# Altium schematic symbol library BQ2571x_reference.SCHLIB: 51 symbols (part 2 of 2)
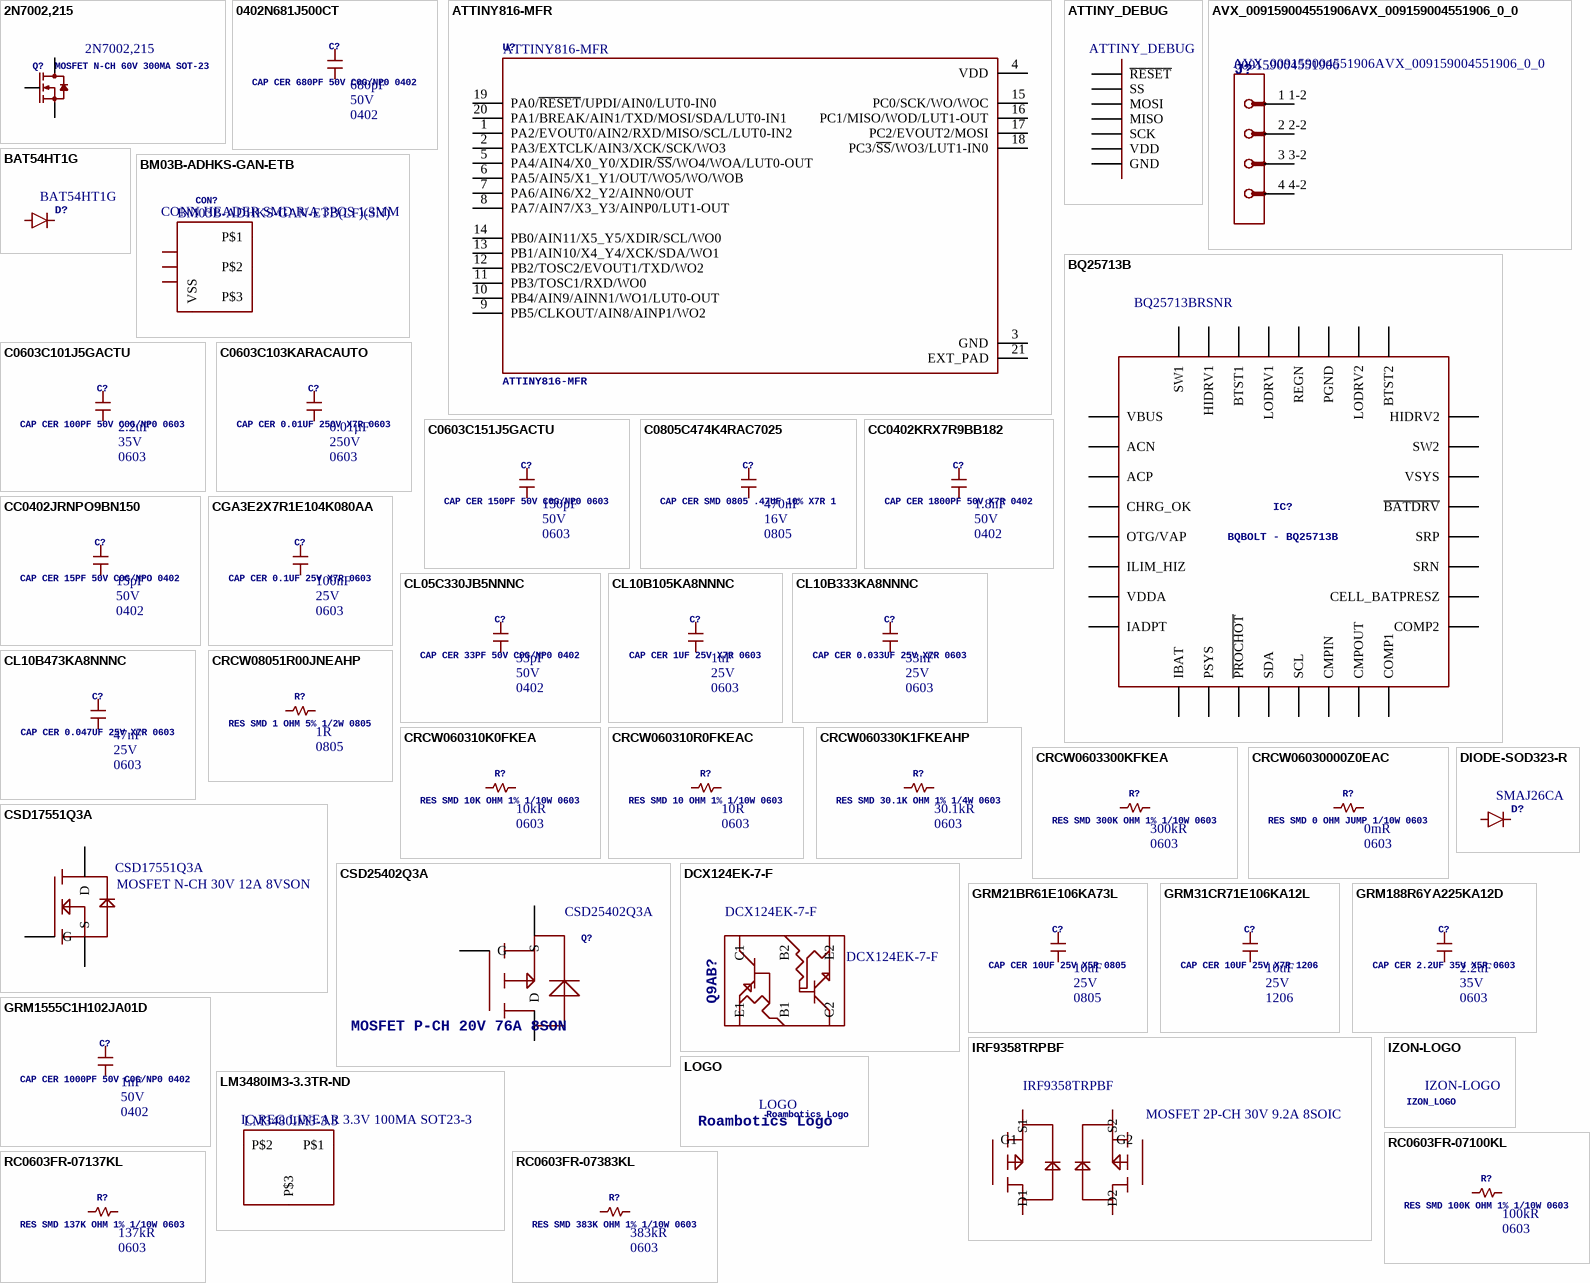
[diagram p2: symbols 2N7002,215 to RC0603FR-07383KL]

## DIODE-SOD323-R
designator D?, comment Manufacturer Part Number: SMAJ26CA  (hidden comment: TVS DIODE 26V 42.1V DO214AC)
42.1V Clamp 9.5A Ipp Tvs Diode Surface Mount DO-214AC (SMA); Manufacturer: Littelfuse; Direction: Bidirectional; Min Breakdown Voltage: 28.9V; Peak Pulse Power: 400W; Number of Channels: 1; Test Current: 1mA; Power Line Protection: No; Max Breakdown Voltage: 31.9V; Max Power Dissipation: 3.3W; Leakage Current: 1uA; ComponentLink1URL: http://www.mouser.com/ds/2/115/ds30093-892620.pdf?src-supplier=Mouser; ComponentLink1Description: http://www.mouser.com/ds/2/115/ds30093-892620.pdf?src-supplier=Mouser; ComponentLink2URL: https://media.digikey.com/pdf/Data%20Sheets/Diodes%20PDFs/BZT52C2V0S-BZT52C39S.pdf?src-supplier=Digi-Key; ComponentLink2Description: https://media.digikey.com/pdf/Data%20Sheets/Diodes%20PDFs/BZT52C2V0S-BZT52C39S.pdf?src-supplier=Digi-Key; Supplier 1: Digi-Key; Stock 1: 19712; Pricing 1: 1 = 0.57000, 10 = 0.44600, 25 = 0.37600, 100 = 0.30590, 250 = 0.25348, 500 = 0.20980, 1000 = 0.15734, 2500 = 0.14423 (USD); RoHS: Yes; Mount: Surface Mount; Number of Pins: 2; Min Operating Temperature: -55°C; Max Operating Temperature: 150°C; Package Quantity: 5000; Packaging: Tape and Reel; Operating Supply Voltage: 26V; Max Surge Current: 9.5A; Reverse Standoff Voltage: 26V; Clamping Voltage: 42.1V; Breakdown Voltage: 28.9V; Polarity: Bidirectional; Peak Pulse Current: 9.5A; Voltage Rating (DC): 26V; Reverse Breakdown Voltage: 28.9V; Number of Bidirectional Channels: 1; Termination: SMD/SMT; Power Dissipation: 400W; Number of Elements: 1; Composition: Zener; Length: 5.28mm; Height: 2.29mm; Width: 2.79mm; Lead Free: Lead Free; REACH SVHC: No SVHC; ComponentLink3URL: https://datasheet.ciiva.com/331/littelfuse-tvs-diode-smaj-datasheet-pdf-331088.pdf?src-supplier=Digi-Key; ComponentLink3Description: https://datasheet.ciiva.com/331/littelfuse-tvs-diode-smaj-datasheet-pdf-331088.pdf?src-supplier=Digi-Key; ComponentLink4URL: https://datasheet.ciiva.com/331/littelfuse-tvs-diode-smaj-datasheet-pdf-331089.pdf?src-supplier=Digi-Key; ComponentLink4Description: https://datasheet.ciiva.com/331/littelfuse-tvs-diode-smaj-datasheet-pdf-331089.pdf?src-supplier=Digi-Key; ComponentLink5URL: https://datasheet.ciiva.com/4509/littelfuse-tvs-diode-smaj-23503-4509438.pdf?src-supplier=Mouser; ComponentLink5Description: https://datasheet.ciiva.com/4509/littelfuse-tvs-diode-smaj-23503-4509438.pdf?src-supplier=Mouser; ComponentLink6URL: https://datasheet.ciiva.com/331/littelfuse-tvs-diode-smaj-datasheet-pdf-331087.pdf?src-supplier=Digi-Key; ComponentLink6Description: https://datasheet.ciiva.com/331/littelfuse-tvs-diode-smaj-datasheet-pdf-331087.pdf?src-supplier=Digi-Key; Supplier Part Number 1: SMAJ26CALFCT-ND
footprint SOD323-R
pins: A, C

## GRM21BR61E106KA73L
designator C?, comment CAP CER 10UF 25V X5R 0805  Voltage Rating: 25V  Capacitance: 10uF  Case/Package: 0805
10µF ±10% 25V Ceramic Capacitor X5R 0805 (2012 Metric); Manufacturer: Murata; Manufacturer Part Number: GRM21BR61E106KA73L; Supplier 1: Digi-Key; Stock 1: 16089237; Pricing 1: 1 = 0.43000, 10 = 0.29600, 100 = 0.17730, 500 = 0.13300, 1000 = 0.11231 (USD); RoHS: Yes; Mount: Surface Mount; Case Code (Metric): 2012; Case Code (Imperial): 0805; Material: Ceramic; Min Operating Temperature: -55°C; Max Operating Temperature: 85°C; Tolerance: 10%; Dielectric: X5R; Package Quantity: 1; Packaging: Tape and Reel; Voltage Rating (DC): 25V; Termination: SMD/SMT; Voltage: 25V; Length: 2mm; Height: 1.25mm; Width: 0.049inch; Thickness: 0.053inch; Depth: 1.25mm; Radiation Hardening: No; REACH SVHC: Unknown; Lead Free: Lead Free; ComponentLink1URL: https://datasheet.ciiva.com/5424/product-5424327.pdf?src-supplier=Mouser; ComponentLink1Description: https://datasheet.ciiva.com/5424/product-5424327.pdf?src-supplier=Mouser; ComponentLink2URL: https://datasheet.ciiva.com/22774/1747469-22774396.pdf?src-supplier=Farnell; ComponentLink2Description: https://datasheet.ciiva.com/22774/1747469-22774396.pdf?src-supplier=Farnell; ComponentLink3URL: https://datasheet.ciiva.com/28584/626718-28584288.pdf?src-supplier=Element14; ComponentLink3Description: https://datasheet.ciiva.com/28584/626718-28584288.pdf?src-supplier=Element14; ComponentLink4URL: https://datasheet.ciiva.com/16440/grm21br61e106ka73l-16440627.pdf?src-supplier=Future+Electronics; ComponentLink4Description: https://datasheet.ciiva.com/16440/grm21br61e106ka73l-16440627.pdf?src-supplier=Future+Electronics; ComponentLink5URL: https://datasheet.ciiva.com/29199/454623-da-01-en-vs-kondensator-0805-29199615.pdf?src-supplier=Conrad; ComponentLink5Description: https://datasheet.ciiva.com/29199/454623-da-01-en-vs-kondensator-0805-29199615.pdf?src-supplier=Conrad; ComponentLink6URL: https://datasheet.ciiva.com/139/partnumbering-e-01-139184.pdf?src-supplier=Digi-Key; ComponentLink6Description: https://datasheet.ciiva.com/139/partnumbering-e-01-139184.pdf?src-supplier=Digi-Key; ComponentLink7URL: https://datasheet.ciiva.com/28584/626718-28584279.pdf?src-supplier=Element14; ComponentLink7Description: https://datasheet.ciiva.com/28584/626718-28584279.pdf?src-supplier=Element14; ComponentLink8URL: https://datasheet.ciiva.com/14116/grmseries-highdielectrictype-eng-14116376.pdf?src-supplier=Distrelec; ComponentLink8Description: https://datasheet.ciiva.com/14116/grmseries-highdielectrictype-eng-14116376.pdf?src-supplier=Distrelec; ComponentLink9URL: https://datasheet.ciiva.com/139/partnumbering-e-01-139182.pdf?src-supplier=Digi-Key; ComponentLink9Description: https://datasheet.ciiva.com/139/partnumbering-e-01-139182.pdf?src-supplier=Digi-Key; ComponentLink10URL: https://datasheet.ciiva.com/139/partnumbering-e-01-139183.pdf?src-supplier=Digi-Key; ComponentLink10Description: https://datasheet.ciiva.com/139/partnumbering-e-01-139183.pdf?src-supplier=Digi-Key; ComponentLink11URL: https://datasheet.ciiva.com/7719/1747469-7719093.pdf?src-supplier=Element14; ComponentLink11Description: https://datasheet.ciiva.com/7719/1747469-7719093.pdf?src-supplier=Element14; Supplier Part Number 1: 490-5523-1-ND
footprint 0805
pins: P$1, P$2

## GRM31CR71E106KA12L
designator C?, comment CAP CER 10UF 25V X7R 1206  Voltage Rating: 25V  Capacitance: 10uF  Case/Package: 1206
10µF ±10% 25V Ceramic Capacitor X7R 1206 (3216 Metric); Manufacturer: Murata; Manufacturer Part Number: GRM31CR71E106KA12L; Supplier 1: Digi-Key; Stock 1: 102559; Pricing 1: 1 = 0.90000, 10 = 0.68700, 100 = 0.49160, 500 = 0.38064, 1000 = 0.32777 (USD); RoHS: Yes; Mount: Surface Mount; Number of Pins: 2; Case Code (Imperial): 1206; Case Code (Metric): 3216; Material: Ceramic; Min Operating Temperature: -55°C; Max Operating Temperature: 125°C; Tolerance: 10%; Voltage Rating (DC): 25V; Packaging: Tape and Reel; Package Quantity: 1; Dielectric: X7R; Termination: SMD/SMT; Voltage: 25V; Length: 3.2mm; Height: 1.6mm; Width: 1.6mm; Depth: 1.6mm; Thickness: 0.071inch; Radiation Hardening: No; REACH SVHC: No SVHC; Lead Free: Lead Free; ComponentLink1URL: https://datasheet.ciiva.com/5418/product-5418961.pdf?src-supplier=Mouser; ComponentLink1Description: https://datasheet.ciiva.com/5418/product-5418961.pdf?src-supplier=Mouser; ComponentLink2URL: https://datasheet.ciiva.com/22746/415311-22746465.pdf?src-supplier=Element14; ComponentLink2Description: https://datasheet.ciiva.com/22746/415311-22746465.pdf?src-supplier=Element14; ComponentLink3URL: https://datasheet.ciiva.com/22703/1747484-22703378.pdf?src-supplier=Element14; ComponentLink3Description: https://datasheet.ciiva.com/22703/1747484-22703378.pdf?src-supplier=Element14; ComponentLink4URL: https://datasheet.ciiva.com/11789/0900766b80ef921d-11789064.pdf?src-supplier=RSComponents; ComponentLink4Description: https://datasheet.ciiva.com/11789/0900766b80ef921d-11789064.pdf?src-supplier=RSComponents; ComponentLink5URL: https://datasheet.ciiva.com/3777/4378grm31cr71e106ka1223-3777275.pdf?src-supplier=Arrow; ComponentLink5Description: https://datasheet.ciiva.com/3777/4378grm31cr71e106ka1223-3777275.pdf?src-supplier=Arrow; ComponentLink6URL: https://datasheet.ciiva.com/29199/454935-da-01-en-vs-kondensator-1206-29199424.pdf?src-supplier=Conrad; ComponentLink6Description: https://datasheet.ciiva.com/29199/454935-da-01-en-vs-kondensator-1206-29199424.pdf?src-supplier=Conrad; ComponentLink7URL: https://datasheet.ciiva.com/29202/451104-da-01-de-vs-chip-kond-1206-10-0-uf-10pr-25-0v-x7r-29202596.pdf?src-supplier=Conrad; ComponentLink7Description: https://datasheet.ciiva.com/29202/451104-da-01-de-vs-chip-kond-1206-10-0-uf-10pr-25-0v-x7r-29202596.pdf?src-supplier=Conrad; ComponentLink8URL: https://datasheet.ciiva.com/16210/partnumbering-e-01-16210776.pdf?src-supplier=Future+Electronics; ComponentLink8Description: https://datasheet.ciiva.com/16210/partnumbering-e-01-16210776.pdf?src-supplier=Future+Electronics; ComponentLink9URL: https://datasheet.ciiva.com/14116/grmseries-highdielectrictype-eng-14116377.pdf?src-supplier=Distrelec; ComponentLink9Description: https://datasheet.ciiva.com/14116/grmseries-highdielectrictype-eng-14116377.pdf?src-supplier=Distrelec; ComponentLink10URL: https://datasheet.ciiva.com/6264/partnumbering-e-01-6264458.pdf?src-supplier=Digi-Key; ComponentLink10Description: https://datasheet.ciiva.com/6264/partnumbering-e-01-6264458.pdf?src-supplier=Digi-Key; ComponentLink11URL: https://datasheet.ciiva.com/22774/415311-22774043.pdf?src-supplier=Farnell; ComponentLink11Description: https://datasheet.ciiva.com/22774/415311-22774043.pdf?src-supplier=Farnell; ComponentLink12URL: https://datasheet.ciiva.com/6264/partnumbering-e-01-6264460.pdf?src-supplier=Digi-Key; ComponentLink12Description: https://datasheet.ciiva.com/6264/partnumbering-e-01-6264460.pdf?src-supplier=Digi-Key; ComponentLink13URL: https://datasheet.ciiva.com/22774/415311-22774044.pdf?src-supplier=Farnell; ComponentLink13Description: https://datasheet.ciiva.com/22774/415311-22774044.pdf?src-supplier=Farnell; ComponentLink14URL: https://datasheet.ciiva.com/6264/partnumbering-e-01-6264462.pdf?src-supplier=Digi-Key; ComponentLink14Description: https://datasheet.ciiva.com/6264/partnumbering-e-01-6264462.pdf?src-supplier=Digi-Key; Supplier Part Number 1: 490-6518-1-ND
footprint 0805
pins: P$1, P$2

## GRM188R6YA225KA12D
designator C?, comment CAP CER 2.2UF 35V X5R 0603  Voltage Rating: 35V  Capacitance: 2.2uF  Case/Package: 0603
2.2µF ±10% 35V Ceramic Capacitor X5R 0603 (1608 Metric); Manufacturer: Murata; Manufacturer Part Number: GRM188R6YA225KA12D; Supplier 1: Digi-Key; Stock 1: 663226; Pricing 1: 1 = 0.21000, 10 = 0.14100, 100 = 0.07170, 500 = 0.04904, 1000 = 0.04338 (USD); RoHS: Yes; Mount: Surface Mount; Weight: 0.000222oz; Case Code (Metric): 1608; Case Code (Imperial): 0603; Material: Ceramic; Min Operating Temperature: -55°C; Max Operating Temperature: 85°C; Package Quantity: 4000; Packaging: Tape and Reel; Tolerance: 10%; Dielectric: X5R; Voltage: 35V; Termination: SMD/SMT; Voltage Rating (DC): 35V; Length: 1.6mm; Height: 0.8mm; Width: 0.8mm; Thickness: 0.035inch; Depth: 0.8mm; REACH SVHC: No SVHC; Lead Free: Lead Free; ComponentLink1URL: https://datasheet.ciiva.com/14906/partnumbering-e-01-14906490.pdf?src-supplier=Digi-Key; ComponentLink1Description: https://datasheet.ciiva.com/14906/partnumbering-e-01-14906490.pdf?src-supplier=Digi-Key; ComponentLink2URL: https://datasheet.ciiva.com/14906/partnumbering-e-01-14906491.pdf?src-supplier=Digi-Key; ComponentLink2Description: https://datasheet.ciiva.com/14906/partnumbering-e-01-14906491.pdf?src-supplier=Digi-Key; ComponentLink3URL: https://datasheet.ciiva.com/14906/partnumbering-e-01-14906492.pdf?src-supplier=Digi-Key; ComponentLink3Description: https://datasheet.ciiva.com/14906/partnumbering-e-01-14906492.pdf?src-supplier=Digi-Key; Supplier Part Number 1: 490-7204-1-ND
footprint 0603
pins: P$1, P$2

## GRM1555C1H102JA01D
designator C?, comment CAP CER 1000PF 50V C0G/NP0 0402  Voltage Rating: 50V  Capacitance: 1nF  Case/Package: 0402
1000pF ±5% 50V Ceramic Capacitor C0G, NP0 0402 (1005 Metric); Manufacturer: Murata; Manufacturer Part Number: GRM1555C1H102JA01D; Insulation Resistance: 10GR; Temperature Coefficient: 30ppm/°C; Supplier 1: Digi-Key; Stock 1: 6629230; Pricing 1: 1 = 0.11000, 10 = 0.07900, 100 = 0.03700, 500 = 0.02596, 1000 = 0.02149, 2500 = 0.02000, 5000 = 0.01830 (USD); RoHS: Yes; Mount: Surface Mount; Number of Pins: 2; Case Code (Metric): 1005; Case Code (Imperial): 0402; Material: Ceramic; Dielectric Material: Ceramic; Min Operating Temperature: -55°C; Max Operating Temperature: 125°C; Tolerance: 5%; Dielectric: C0G; Package Quantity: 1; Packaging: Tape and Reel; Voltage Rating (DC): 50V; Termination: SMD/SMT; Voltage: 50V; Length: 1mm; Height: 0.5mm; Width: 0.5mm; Thickness: 0.022inch; Depth: 0.5mm; Radiation Hardening: No; REACH SVHC: No SVHC; Lead Free: Lead Free; ComponentLink1URL: https://datasheet.ciiva.com/132/product-132800.pdf?src-supplier=Digi-Key; ComponentLink1Description: https://datasheet.ciiva.com/132/product-132800.pdf?src-supplier=Digi-Key; ComponentLink2URL: https://datasheet.ciiva.com/34302/1855908-34302849.pdf?src-supplier=Jameco; ComponentLink2Description: https://datasheet.ciiva.com/34302/1855908-34302849.pdf?src-supplier=Jameco; ComponentLink3URL: https://datasheet.ciiva.com/18184/getdatasheetpartid-90260-18184180.pdf?src-supplier=Verical; ComponentLink3Description: https://datasheet.ciiva.com/18184/getdatasheetpartid-90260-18184180.pdf?src-supplier=Verical; ComponentLink4URL: https://datasheet.ciiva.com/11786/0900766b807a1cab-11786727.pdf?src-supplier=RSComponents; ComponentLink4Description: https://datasheet.ciiva.com/11786/0900766b807a1cab-11786727.pdf?src-supplier=RSComponents; ComponentLink5URL: https://datasheet.ciiva.com/132/grm1555c1h102ja01-01-132799.pdf?src-supplier=Digi-Key; ComponentLink5Description: https://datasheet.ciiva.com/132/grm1555c1h102ja01-01-132799.pdf?src-supplier=Digi-Key; ComponentLink6URL: https://datasheet.ciiva.com/29200/453569-da-01-en-vs-kondensator-0402-29200121.pdf?src-supplier=Conrad; ComponentLink6Description: https://datasheet.ciiva.com/29200/453569-da-01-en-vs-kondensator-0402-29200121.pdf?src-supplier=Conrad; ComponentLink7URL: https://datasheet.ciiva.com/132/grm1555c1h102ja01-01-132801.pdf?src-supplier=Digi-Key; ComponentLink7Description: https://datasheet.ciiva.com/132/grm1555c1h102ja01-01-132801.pdf?src-supplier=Digi-Key; ComponentLink8URL: https://datasheet.ciiva.com/7828/4360-7828821.pdf?src-supplier=Element14; ComponentLink8Description: https://datasheet.ciiva.com/7828/4360-7828821.pdf?src-supplier=Element14; ComponentLink9URL: https://datasheet.ciiva.com/7828/1747436-7828822.pdf?src-supplier=Element14; ComponentLink9Description: https://datasheet.ciiva.com/7828/1747436-7828822.pdf?src-supplier=Element14; ComponentLink10URL: https://datasheet.ciiva.com/14116/grmseries-tc-hitype-eng-14116919.pdf?src-supplier=Distrelec; ComponentLink10Description: https://datasheet.ciiva.com/14116/grmseries-tc-hitype-eng-14116919.pdf?src-supplier=Distrelec; ComponentLink11URL: https://datasheet.ciiva.com/14116/grmseries-tc-hitype-eng-14116858.pdf?src-supplier=Distrelec; ComponentLink11Description: https://datasheet.ciiva.com/14116/grmseries-tc-hitype-eng-14116858.pdf?src-supplier=Distrelec; Supplier Part Number 1: 490-3244-1-ND
footprint 0402
pins: P$1, P$2

## IRF9358TRPBF
designator Q5-?, comment MOSFET 2P-CH 30V 9.2A 8SOIC  Manufacturer Part Number: IRF9358TRPBF
Mosfet Array 2 P-Channel (Dual) 30V 9.2A 2W Surface Mount 8-SO; Manufacturer: International Rectifier; Rise Time: 7.2ns; Gate to Source Voltage (Vgs): 20V; Turn-On Delay Time: 5.7ns; Turn-Off Delay Time: 146ns; Fall Time: 69ns; Rds On Max: 16.3mR; Input Capacitance: 1.74nF; Nominal Vgs: -1.8V; Drain to Source Resistance: 23.8mR; Drain to Source Breakdown Voltage: -30V; Supplier 1: Digi-Key; Stock 1: 34724; Pricing 1: 1 = 1.22000, 10 = 1.08300, 100 = 0.85580, 500 = 0.66368, 1000 = 0.52396 (USD); RoHS: Yes; Mount: Surface Mount; Case/Package: SOIC; Number of Pins: 8; Min Operating Temperature: -55°C; Max Operating Temperature: 150°C; Continuous Drain Current (ID): 9.2A; Package Quantity: 1; Packaging: Tape and Reel; Power Dissipation: 2W; Drain to Source Voltage (Vdss): 30V; Max Power Dissipation: 2W; Element Configuration: Dual; Length: 5mm; Height: 1.5mm; Width: 4mm; Radiation Hardening: No; REACH SVHC: No SVHC; ComponentLink1URL: https://datasheet.ciiva.com/4438/irf9358pbf-72620-4438704.pdf?src-supplier=Mouser; ComponentLink1Description: https://datasheet.ciiva.com/4438/irf9358pbf-72620-4438704.pdf?src-supplier=Mouser; ComponentLink2URL: https://datasheet.ciiva.com/17317/irf9358pbf-17317301.pdf?src-supplier=Avnet+Europe; ComponentLink2Description: https://datasheet.ciiva.com/17317/irf9358pbf-17317301.pdf?src-supplier=Avnet+Europe; ComponentLink3URL: https://datasheet.ciiva.com/929/irf9358pbf-929243.pdf?src-supplier=Digi-Key; ComponentLink3Description: https://datasheet.ciiva.com/929/irf9358pbf-929243.pdf?src-supplier=Digi-Key; ComponentLink4URL: https://datasheet.ciiva.com/11169/irf9358pbf-11169947.pdf?src-supplier=Avnet; ComponentLink4Description: https://datasheet.ciiva.com/11169/irf9358pbf-11169947.pdf?src-supplier=Avnet; ComponentLink5URL: https://datasheet.ciiva.com/929/irf9358pbf-929244.pdf?src-supplier=Digi-Key; ComponentLink5Description: https://datasheet.ciiva.com/929/irf9358pbf-929244.pdf?src-supplier=Digi-Key; ComponentLink6URL: https://datasheet.ciiva.com/929/irf9358pbf-929245.pdf?src-supplier=Digi-Key; ComponentLink6Description: https://datasheet.ciiva.com/929/irf9358pbf-929245.pdf?src-supplier=Digi-Key; ComponentLink7URL: https://datasheet.ciiva.com/7798/irf9358pbf-7798959.pdf?src-supplier=Element14; ComponentLink7Description: https://datasheet.ciiva.com/7798/irf9358pbf-7798959.pdf?src-supplier=Element14; Supplier Part Number 1: IRF9358TRPBFCT-ND
footprint INFENION_SO8
pins: P$1 S2, P$2 G2, P$3 S1, P$4 G1, P$5 P$6 D1, P$7 P$8 D2

## IZON-LOGO
designator LOGO?
GateName_1: G$1; SymbolName_1: IZON_LOGO; LibraryName: Roambotics; DeviceSetName: IZON-LOGO; IZON_LOGO: IZON_LOGO
footprint IZON_LOGO

## LM3480IM3-3.3TR-ND
designator U?, comment IC REG LINEAR 3.3V 100MA SOT23-3  Manufacturer Part Number: LM3480IM3-3.3
Linear Voltage Regulator IC Positive Fixed 1 Output  100mA SOT-23-3; Manufacturer: TI National Semiconductor; Max Power Dissipation: 250mW; Dropout Voltage: 900mV; Number of Outputs: 1; Max Input Voltage: 30V; Accuracy: 5%; Quiescent Current: 4mA; Supplier 1: Digi-Key; Stock 1: 12403; Pricing 1: 1 = 1.43000, 10 = 1.27600, 100 = 0.99500, 500 = 0.82194 (USD); RoHS: Yes; Mount: Surface Mount; Case/Package: SOT-23; Number of Pins: 3; Min Operating Temperature: -40°C; Max Operating Temperature: 125°C; Output Voltage: 3.3V; Packaging: Tape and Reel; Output Current: 100mA; Polarity: Positive; Output Type: Fixed; Power Dissipation: 250mW; Output Voltage Accuracy: 5%; Package Quantity: 1000; Number of Regulators: 1; Radiation Hardening: No; Lead Free: Contains Lead; ComponentLink1URL: https://datasheet.ciiva.com/13005/snvs011d-122668-13005232.pdf?src-supplier=Mouser; ComponentLink1Description: https://datasheet.ciiva.com/13005/snvs011d-122668-13005232.pdf?src-supplier=Mouser; ComponentLink2URL: https://datasheet.ciiva.com/26904/lm3480im3-3-3-26904960.pdf?src-supplier=IIIC; ComponentLink2Description: https://datasheet.ciiva.com/26904/lm3480im3-3-3-26904960.pdf?src-supplier=IIIC; ComponentLink3URL: https://datasheet.ciiva.com/6588/lm3480-6588709.pdf?src-supplier=Digi-Key; ComponentLink3Description: https://datasheet.ciiva.com/6588/lm3480-6588709.pdf?src-supplier=Digi-Key; ComponentLink4URL: https://datasheet.ciiva.com/6588/lm3480-6588712.pdf?src-supplier=Digi-Key; ComponentLink4Description: https://datasheet.ciiva.com/6588/lm3480-6588712.pdf?src-supplier=Digi-Key; ComponentLink5URL: https://datasheet.ciiva.com/6588/lm3480-6588761.pdf?src-supplier=Digi-Key; ComponentLink5Description: https://datasheet.ciiva.com/6588/lm3480-6588761.pdf?src-supplier=Digi-Key; ComponentLink6URL: https://datasheet.ciiva.com/3225/lm3480-3225406.pdf?src-supplier=Avnet; ComponentLink6Description: https://datasheet.ciiva.com/3225/lm3480-3225406.pdf?src-supplier=Avnet; Supplier Part Number 1: LM3480IM3-3.3CT-ND
footprint SOT−23
pins: P$1, P$2, P$3

## LOGO
designator LOGO?  RoamboticsLogo: Roambotics Logo
GateName_1: G$1; SymbolName_1: LOGO; LibraryName: Roambotics; DeviceSetName: LOGO
footprint LOGO

## RC0603FR-07100KL
designator R?, comment RES SMD 100K OHM 1% 1/10W 0603  Case/Package: 0603  Resistance: 100kR
100 kOhms ±1% 0.1W, 1/10W Chip Resistor 0603 (1608 Metric) Moisture Resistant Thick Film; Manufacturer: Yageo; Manufacturer Part Number: RC0603FR-07100KL; Temperature Coefficient: 100ppm/°C; Voltage Rating (DC): 50V; Power Rating: 100mW; Working Voltage: 75V; Supplier 1: Digi-Key; Stock 1: 51668804; Pricing 1: 1 = 0.10000, 10 = 0.02400, 100 = 0.00970, 1000 = 0.00437, 2500 = 0.00379 (USD); RoHS: Yes; Number of Pins: 2; Case Code (Imperial): 0603; Case Code (Metric): 1608; Min Operating Temperature: -55°C; Max Operating Temperature: 155°C; Tolerance: 1%; Composition: Thick Film; Packaging: Tape and Reel; Voltage Rating: 50V; Termination: SMD/SMT; Military Standard: Not; Number of Terminations: 2; Length: 1.6mm; Height: 0.45mm; Width: 0.8mm; Depth: 0.8mm; REACH SVHC: No SVHC; Lead Free: Lead Free; ComponentLink1URL: https://datasheet.ciiva.com/11808/0900766b80f96399-11808107.pdf?src-supplier=RSComponents; ComponentLink1Description: https://datasheet.ciiva.com/11808/0900766b80f96399-11808107.pdf?src-supplier=RSComponents; ComponentLink2URL: https://datasheet.ciiva.com/7983/443971-7983593.pdf?src-supplier=Element14; ComponentLink2Description: https://datasheet.ciiva.com/7983/443971-7983593.pdf?src-supplier=Element14; ComponentLink3URL: https://datasheet.ciiva.com/46440/1868787-46440889.pdf?src-supplier=Element14; ComponentLink3Description: https://datasheet.ciiva.com/46440/1868787-46440889.pdf?src-supplier=Element14; ComponentLink4URL: https://datasheet.ciiva.com/7746/1738695-7746234.pdf?src-supplier=Element14; ComponentLink4Description: https://datasheet.ciiva.com/7746/1738695-7746234.pdf?src-supplier=Element14; ComponentLink5URL: https://datasheet.ciiva.com/7746/1738695-7746235.pdf?src-supplier=Element14; ComponentLink5Description: https://datasheet.ciiva.com/7746/1738695-7746235.pdf?src-supplier=Element14; ComponentLink6URL: https://datasheet.ciiva.com/22747/443971-22747516.pdf?src-supplier=Element14; ComponentLink6Description: https://datasheet.ciiva.com/22747/443971-22747516.pdf?src-supplier=Element14; Supplier Part Number 1: 311-100KHRCT-ND
footprint 0603
pins: P$1, P$2

## RC0603FR-07137KL
designator R?, comment RES SMD 137K OHM 1% 1/10W 0603  Case/Package: 0603  Resistance: 137kR
137 kOhms ±1% 0.1W, 1/10W Chip Resistor 0603 (1608 Metric) Moisture Resistant Thick Film; Manufacturer: Yageo; Manufacturer Part Number: RC0603FR-07137KL; Power Rating: 100mW; Voltage Rating: 50V; Temperature Coefficient: 100ppm/°C; Supplier 1: Digi-Key; Stock 1: 581029; Pricing 1: 1 = 0.10000, 10 = 0.02400, 100 = 0.00970, 1000 = 0.00437, 2500 = 0.00379 (USD); RoHS: Yes; Mount: Surface Mount; Case Code (Imperial): 0603; Case Code (Metric): 1608; Min Operating Temperature: -55°C; Max Operating Temperature: 155°C; Tolerance: 1%; Packaging: Tape and Reel; Package Quantity: 5000; Termination: SMD/SMT; Composition: Thick Film; Military Standard: Not; Voltage Rating (DC): 50V; Length: 1.6mm; Height: 0.45mm; Width: 0.8mm; Depth: 0.8mm; Lead Free: Lead Free; ComponentLink1URL: https://datasheet.ciiva.com/11809/0900766b80f96399-11809248.pdf?src-supplier=RSComponents; ComponentLink1Description: https://datasheet.ciiva.com/11809/0900766b80f96399-11809248.pdf?src-supplier=RSComponents; ComponentLink2URL: https://datasheet.ciiva.com/12558/rc0603-272842-12558943.pdf?src-supplier=Mouser; ComponentLink2Description: https://datasheet.ciiva.com/12558/rc0603-272842-12558943.pdf?src-supplier=Mouser; Supplier Part Number 1: 311-137KHRCT-ND
footprint 0603
pins: P$1, P$2

## RC0603FR-07383KL
designator R?, comment RES SMD 383K OHM 1% 1/10W 0603  Case/Package: 0603  Resistance: 383kR
383 kOhms ±1% 0.1W, 1/10W Chip Resistor 0603 (1608 Metric) Moisture Resistant Thick Film; Manufacturer: Yageo; Manufacturer Part Number: RC0603FR-07383KL; Voltage Rating: 75V; Power Rating: 100mW; Temperature Coefficient: 100ppm/°C; Voltage Rating (DC): 50V; Supplier 1: Digi-Key; Stock 1: 541343; Pricing 1: 1 = 0.10000, 10 = 0.02400, 100 = 0.00970, 1000 = 0.00437, 2500 = 0.00379 (USD); RoHS: Yes; Weight: 7.1E-05oz; Case Code (Imperial): 0603; Case Code (Metric): 1608; Min Operating Temperature: -55°C; Max Operating Temperature: 155°C; Tolerance: 1%; Packaging: Tape and Reel; Package Quantity: 1; Termination: SMD/SMT; Composition: Thick Film; Number of Terminations: 2; Military Standard: Not; Max Power Dissipation: 100mW; Features: Moisture Resistant; Length: 1.6mm; Height: 0.022inch; Width: 0.8mm; Depth: 0.8mm; Lead Free: Lead Free; ComponentLink1URL: https://datasheet.ciiva.com/2454/pyu-r-int-thick-7-2454780.pdf?src-supplier=Digi-Key; ComponentLink1Description: https://datasheet.ciiva.com/2454/pyu-r-int-thick-7-2454780.pdf?src-supplier=Digi-Key; ComponentLink2URL: https://datasheet.ciiva.com/2454/pyu-r-int-thick-7-2454781.pdf?src-supplier=Digi-Key; ComponentLink2Description: https://datasheet.ciiva.com/2454/pyu-r-int-thick-7-2454781.pdf?src-supplier=Digi-Key; ComponentLink3URL: https://datasheet.ciiva.com/2454/pyu-r-int-thick-7-2454782.pdf?src-supplier=Digi-Key; ComponentLink3Description: https://datasheet.ciiva.com/2454/pyu-r-int-thick-7-2454782.pdf?src-supplier=Digi-Key; Supplier Part Number 1: 311-383KHRCT-ND
footprint 0603
pins: P$1, P$2

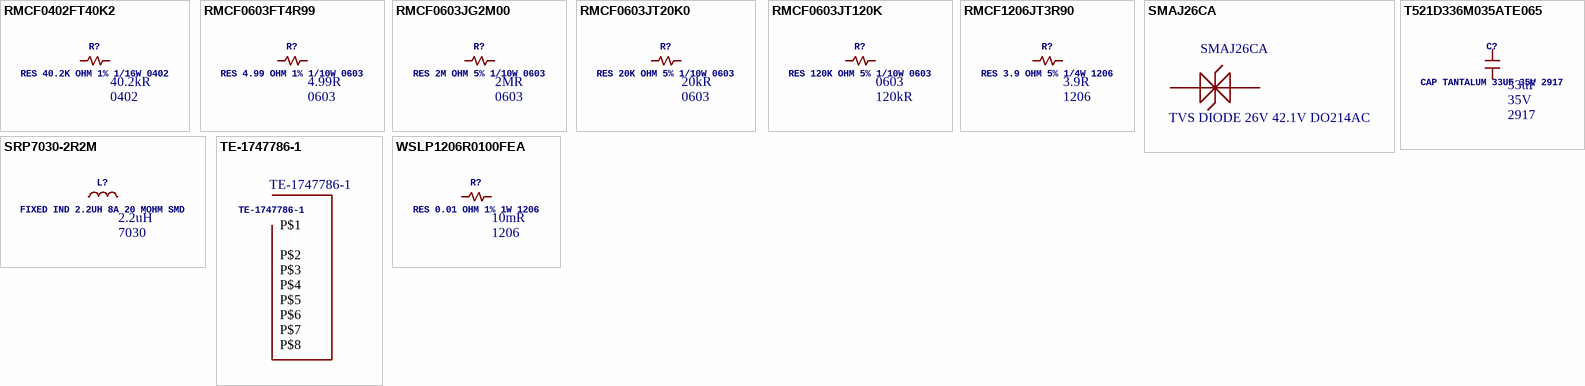
[diagram p1: symbols RMCF0402FT40K2 to WSLP1206R0100FEA]

## RMCF0402FT40K2
designator R?, comment RES 40.2K OHM 1% 1/16W 0402  Resistance: 40.2kR  Case/Package: 0402
40.2 kOhms ±1% 0.063W, 1/16W Chip Resistor 0402 (1005 Metric) Automotive AEC-Q200 Thick Film; Manufacturer: Stackpole Electronics; Manufacturer Part Number: RMCF0402FT40K2; Max Power Dissipation: 63mW; Temperature Coefficient: 100ppm/°C; Supplier 1: Digi-Key; Stock 1: 98093; Pricing 1: 1 = 0.10000, 10 = 0.01500, 100 = 0.00610, 1000 = 0.00275, 2500 = 0.00239, 5000 = 0.00198 (USD); RoHS: Yes; Mount: Surface Mount; Case Code (Metric): 1005; Case Code (Imperial): 0402; Contact Plating: Tin; Min Operating Temperature: -55°C; Max Operating Temperature: 155°C; Tolerance: 1%; Packaging: Tape and Reel; Composition: Thick Film; Number of Terminations: 2; Features: Automotive AEC-Q200; Length: 0.039inch; Height: 0.016inch; Width: 0.02inch; Radiation Hardening: No; Lead Free: Lead Free; ComponentLink1URL: https://www.seielect.com/catalog/SEI-Packaging.pdf?src-supplier=Digi-Key; ComponentLink1Description: https://www.seielect.com/catalog/SEI-Packaging.pdf?src-supplier=Digi-Key; ComponentLink2URL: https://www.seielect.com/catalog/SEI-RMCF_RMCP.pdf?src-supplier=Avnet; ComponentLink2Description: https://www.seielect.com/catalog/SEI-RMCF_RMCP.pdf?src-supplier=Avnet; ComponentLink3URL: http://components.arrow.com/part/dataview/50863704S9798453N1174?src-supplier=Arrow; ComponentLink3Description: http://components.arrow.com/part/dataview/50863704S9798453N1174?src-supplier=Arrow; Supplier Part Number 1: RMCF0402FT40K2CT-ND
footprint 0402
pins: P$1, P$2

## RMCF0603FT4R99
designator R?, comment RES 4.99 OHM 1% 1/10W 0603  Case/Package: 0603  Resistance: 4.99R
4.99 Ohms ±1% 0.1W, 1/10W Chip Resistor 0603 (1608 Metric) Automotive AEC-Q200 Thick Film; Manufacturer: Stackpole Electronics; Manufacturer Part Number: RMCF0603FT4R99; Max Power Dissipation: 100mW; Temperature Coefficient: 200ppm/°C; Supplier 1: Digi-Key; Stock 1: 147056; Pricing 1: 1 = 0.10000, 10 = 0.02500, 100 = 0.01020, 1000 = 0.00459, 2500 = 0.00398 (USD); RoHS: Yes; Mount: Surface Mount; Case Code (Metric): 1608; Case Code (Imperial): 0603; Contact Plating: Tin; Min Operating Temperature: -55°C; Max Operating Temperature: 155°C; Packaging: Tape and Reel; Tolerance: 1%; Composition: Thick Film; Number of Terminations: 2; Features: Automotive AEC-Q200; Length: 0.061inch; Height: 0.022inch; Width: 0.031inch; Radiation Hardening: No; Lead Free: Lead Free; ComponentLink1URL: https://www.seielect.com/catalog/SEI-RMCF_RMCP.pdf?src-supplier=Avnet; ComponentLink1Description: https://www.seielect.com/catalog/SEI-RMCF_RMCP.pdf?src-supplier=Avnet; ComponentLink2URL: https://www.seielect.com/catalog/sei-rmcf_rmcp.pdf?src-supplier=Digi-Key; ComponentLink2Description: https://www.seielect.com/catalog/sei-rmcf_rmcp.pdf?src-supplier=Digi-Key; Supplier Part Number 1: RMCF0603FT4R99CT-ND
footprint 0603
pins: P$1, P$2

## RMCF0603JG2M00
designator R?, comment RES 2M OHM 5% 1/10W 0603  Case/Package: 0603  Resistance: 2MR
2 MOhms ±5% 0.1W, 1/10W Chip Resistor 0603 (1608 Metric) Automotive AEC-Q200 Thick Film; Manufacturer: Stackpole Electronics; Manufacturer Part Number: RMCF0603JG2M00; Max Power Dissipation: 100mW; Temperature Coefficient: 200ppm/°C; Supplier 1: Digi-Key; Stock 1: 6144; Pricing 1: 1 = 0.10000, 10 = 0.01500, 100 = 0.00610, 1000 = 0.00275, 2500 = 0.00239, 5000 = 0.00198 (USD); RoHS: Yes; Mount: Surface Mount; Case Code (Metric): 1608; Case Code (Imperial): 0603; Contact Plating: Tin; Min Operating Temperature: -55°C; Max Operating Temperature: 155°C; Packaging: Tape and Reel; Tolerance: 5%; Package Quantity: 10000; Composition: Thick Film; Number of Terminations: 2; Features: Automotive AEC-Q200; Length: 0.061inch; Height: 0.022inch; Width: 0.031inch; Radiation Hardening: No; ComponentLink1URL: https://www.seielect.com/catalog/SEI-RMCF_RMCP.pdf?src-supplier=Avnet; ComponentLink1Description: https://www.seielect.com/catalog/SEI-RMCF_RMCP.pdf?src-supplier=Avnet; ComponentLink2URL: https://www.seielect.com/Catalog/SEI-RMCF_RMCP.pdf?src-supplier=Digi-Key; ComponentLink2Description: https://www.seielect.com/Catalog/SEI-RMCF_RMCP.pdf?src-supplier=Digi-Key; Supplier Part Number 1: RMCF0603JG2M00CT-ND
footprint 0603
pins: P$1, P$2

## RMCF0603JT20K0
designator R?, comment RES 20K OHM 5% 1/10W 0603  Case/Package: 0603  Resistance: 20kR
20 kOhms ±5% 0.1W, 1/10W Chip Resistor 0603 (1608 Metric) Automotive AEC-Q200 Thick Film; Manufacturer: Stackpole Electronics; Manufacturer Part Number: RMCF0603JT20K0; Power Rating: 100mW; Temperature Coefficient: 100ppm/°C; Supplier 1: Digi-Key; Stock 1: 63686; Pricing 1: 1 = 0.10000, 10 = 0.01500, 100 = 0.00610, 1000 = 0.00275, 2500 = 0.00239 (USD); RoHS: Yes; Mount: Surface Mount; Case Code (Metric): 1608; Case Code (Imperial): 0603; Contact Plating: Tin; Min Operating Temperature: -55°C; Max Operating Temperature: 155°C; Tolerance: 5%; Packaging: Tape and Reel; Composition: Thick Film; Number of Terminations: 2; Military Standard: Not; Max Power Dissipation: 100mW; Features: Automotive AEC-Q200; Length: 0.061inch; Height: 0.022inch; Width: 0.031inch; Depth: 0.8mm; Radiation Hardening: No; Lead Free: Lead Free; ComponentLink1URL: http://components.arrow.com/part/dataview/40962070S7654859N1174?src-supplier=Arrow; ComponentLink1Description: http://components.arrow.com/part/dataview/40962070S7654859N1174?src-supplier=Arrow; ComponentLink2URL: https://www.seielect.com/Catalog/SEI-RMCF_RMCP.pdf?src-supplier=Digi-Key; ComponentLink2Description: https://www.seielect.com/Catalog/SEI-RMCF_RMCP.pdf?src-supplier=Digi-Key; ComponentLink3URL: https://www.seielect.com/catalog/SEI-Packaging.pdf?src-supplier=Digi-Key; ComponentLink3Description: https://www.seielect.com/catalog/SEI-Packaging.pdf?src-supplier=Digi-Key; ComponentLink4URL: https://www.seielect.com/catalog/SEI-RMCF_RMCP.pdf?src-supplier=Avnet; ComponentLink4Description: https://www.seielect.com/catalog/SEI-RMCF_RMCP.pdf?src-supplier=Avnet; ComponentLink5URL: http://www.seielect.com/catalog/sei-rmc.pdf?src-supplier=Future+Electronics; ComponentLink5Description: http://www.seielect.com/catalog/sei-rmc.pdf?src-supplier=Future+Electronics; ComponentLink6URL: https://www.verical.com/server-webapp/html/getDatasheet?partID=493746&src-supplier=Verical; ComponentLink6Description: https://www.verical.com/server-webapp/html/getDatasheet?partID=493746&src-supplier=Verical; Supplier Part Number 1: RMCF0603JT20K0CT-ND
footprint 0603
pins: P$1, P$2

## RMCF0603JT120K
designator R?, comment RES 120K OHM 5% 1/10W 0603  Case/Package: 0603  Resistance: 120kR
120 kOhms ±5% 0.1W, 1/10W Chip Resistor 0603 (1608 Metric) Automotive AEC-Q200 Thick Film; Manufacturer: Stackpole Electronics; Manufacturer Part Number: RMCF0603JT120K; Power Rating: 100mW; Temperature Coefficient: 200ppm/°C; Supplier 1: Digi-Key; Stock 1: 8647; Pricing 1: 1 = 0.10000, 10 = 0.01500, 100 = 0.00610, 1000 = 0.00275, 2500 = 0.00239 (USD); RoHS: Yes; Mount: Surface Mount; Case Code (Metric): 1608; Case Code (Imperial): 0603; Contact Plating: Tin; Min Operating Temperature: -55°C; Max Operating Temperature: 155°C; Tolerance: 5%; Packaging: Tape and Reel; Composition: Thick Film; Number of Terminations: 2; Max Power Dissipation: 100mW; Features: Automotive AEC-Q200; Length: 0.061inch; Height: 0.022inch; Width: 0.031inch; Radiation Hardening: No; Lead Free: Lead Free; ComponentLink1URL: https://www.seielect.com/Catalog/SEI-RMCF_RMCP.pdf?src-supplier=Digi-Key; ComponentLink1Description: https://www.seielect.com/Catalog/SEI-RMCF_RMCP.pdf?src-supplier=Digi-Key; ComponentLink2URL: https://www.seielect.com/catalog/SEI-RMCF_RMCP.pdf?src-supplier=Avnet; ComponentLink2Description: https://www.seielect.com/catalog/SEI-RMCF_RMCP.pdf?src-supplier=Avnet; ComponentLink3URL: http://www.seielect.com/catalog/sei-rmc.pdf?src-supplier=Future+Electronics; ComponentLink3Description: http://www.seielect.com/catalog/sei-rmc.pdf?src-supplier=Future+Electronics; Supplier Part Number 1: RMCF0603JT120KCT-ND
footprint 0603
pins: P$1, P$2

## RMCF1206JT3R90
designator R?, comment RES 3.9 OHM 5% 1/4W 1206  Case/Package: 1206  Resistance: 3.9R
3.9 Ohms ±5% 0.25W, 1/4W Chip Resistor 1206 (3216 Metric) Automotive AEC-Q200 Thick Film; Manufacturer: Stackpole Electronics; Manufacturer Part Number: RMCF1206JT3R90; Max Power Dissipation: 250mW; Temperature Coefficient: 200ppm/°C; Supplier 1: Digi-Key; Stock 1: 4572; Pricing 1: 1 = 0.10000, 10 = 0.03300, 100 = 0.01360, 1000 = 0.00612, 2500 = 0.00531 (USD); RoHS: Yes; Mount: Surface Mount; Contact Plating: Tin; Min Operating Temperature: -55°C; Max Operating Temperature: 155°C; Packaging: Tape and Reel; Tolerance: 5%; Composition: Thick Film; Number of Terminations: 2; Features: Automotive AEC-Q200; Length: 0.126inch; Height: 0.028inch; Width: 0.063inch; Radiation Hardening: No; ComponentLink1URL: https://www.seielect.com/catalog/SEI-RMCF_RMCP.pdf?src-supplier=Avnet; ComponentLink1Description: https://www.seielect.com/catalog/SEI-RMCF_RMCP.pdf?src-supplier=Avnet; ComponentLink2URL: https://www.seielect.com/Catalog/SEI-RMCF_RMCP.pdf?src-supplier=Digi-Key; ComponentLink2Description: https://www.seielect.com/Catalog/SEI-RMCF_RMCP.pdf?src-supplier=Digi-Key; Supplier Part Number 1: RMCF1206JT3R90CT-ND
footprint 1206
pins: P$1, P$2

## SMAJ26CA
designator D?, comment TVS DIODE 26V 42.1V DO214AC  Manufacturer Part Number: SMAJ26CA
42.1V Clamp 9.5A Ipp Tvs Diode Surface Mount DO-214AC (SMA); Manufacturer: Littelfuse; Direction: Bidirectional; Min Breakdown Voltage: 28.9V; Peak Pulse Power: 400W; Number of Channels: 1; Test Current: 1mA; Power Line Protection: No; Max Breakdown Voltage: 31.9V; Max Power Dissipation: 3.3W; Leakage Current: 1uA; Supplier 1: Digi-Key; Stock 1: 19712; Pricing 1: 1 = 0.57000, 10 = 0.44600, 25 = 0.37600, 100 = 0.30590, 250 = 0.25348, 500 = 0.20980, 1000 = 0.15734, 2500 = 0.14423 (USD); RoHS: Yes; Mount: Surface Mount; Number of Pins: 2; Min Operating Temperature: -55°C; Max Operating Temperature: 150°C; Package Quantity: 5000; Packaging: Tape and Reel; Operating Supply Voltage: 26V; Max Surge Current: 9.5A; Reverse Standoff Voltage: 26V; Clamping Voltage: 42.1V; Breakdown Voltage: 28.9V; Polarity: Bidirectional; Peak Pulse Current: 9.5A; Voltage Rating (DC): 26V; Reverse Breakdown Voltage: 28.9V; Number of Bidirectional Channels: 1; Termination: SMD/SMT; Power Dissipation: 400W; Number of Elements: 1; Composition: Zener; Length: 5.28mm; Height: 2.29mm; Width: 2.79mm; Lead Free: Lead Free; REACH SVHC: No SVHC; ComponentLink1URL: https://datasheet.ciiva.com/331/littelfuse-tvs-diode-smaj-datasheet-pdf-331088.pdf?src-supplier=Digi-Key; ComponentLink1Description: https://datasheet.ciiva.com/331/littelfuse-tvs-diode-smaj-datasheet-pdf-331088.pdf?src-supplier=Digi-Key; ComponentLink2URL: https://datasheet.ciiva.com/331/littelfuse-tvs-diode-smaj-datasheet-pdf-331089.pdf?src-supplier=Digi-Key; ComponentLink2Description: https://datasheet.ciiva.com/331/littelfuse-tvs-diode-smaj-datasheet-pdf-331089.pdf?src-supplier=Digi-Key; ComponentLink3URL: https://datasheet.ciiva.com/4509/littelfuse-tvs-diode-smaj-23503-4509438.pdf?src-supplier=Mouser; ComponentLink3Description: https://datasheet.ciiva.com/4509/littelfuse-tvs-diode-smaj-23503-4509438.pdf?src-supplier=Mouser; ComponentLink4URL: https://datasheet.ciiva.com/331/littelfuse-tvs-diode-smaj-datasheet-pdf-331087.pdf?src-supplier=Digi-Key; ComponentLink4Description: https://datasheet.ciiva.com/331/littelfuse-tvs-diode-smaj-datasheet-pdf-331087.pdf?src-supplier=Digi-Key; Supplier Part Number 1: SMAJ26CALFCT-ND
footprint DO-214AC
pins: P$1, P$2

## SRP7030-2R2M
designator L?, comment FIXED IND 2.2UH 8A 20 MOHM SMD  Inductance: 2.2uH  Case/Package: 7030
2.2µH Shielded Wirewound Inductor 8A 20mOhm Max Nonstandard; Manufacturer: Bourns; Manufacturer Part Number: SRP7030-2R2M; Core Material: Ferrite; Tolerance: 20%; DC Resistance (DCR): 20mR; Saturation Current: 11A; Test Frequency: 100kHz; RMS Current (Irms): 7A; Supplier 1: Digi-Key; Stock 1: 6948; Pricing 1: 1 = 1.49000, 10 = 1.38300, 100 = 0.99990, 500 = 0.76590 (USD); RoHS: Yes; Mount: Surface Mount; Number of Pins: 2; Material: Ferrite; Min Operating Temperature: -55°C; Max Operating Temperature: 150°C; Max DC Current: 8A; Inductance Tolerance: 20%; Packaging: Cut Tape; Shielding: Shielded; Package Quantity: 1000; Current Rating: 8A; Resistance: 20MR; Composition: Wirewound; Termination: SMD/SMT; DC Current: 8A; Military Standard: Not; Length: 7.8mm; Height: 3.2mm; Depth: 7mm; Width: 7mm; Height - Seated (Max): 0.126inch; REACH SVHC: No SVHC; ComponentLink1URL: https://datasheet.ciiva.com/11802/0900766b80f2b677-11802764.pdf?src-supplier=RSComponents; ComponentLink1Description: https://datasheet.ciiva.com/11802/0900766b80f2b677-11802764.pdf?src-supplier=RSComponents; ComponentLink2URL: https://datasheet.ciiva.com/8515/srp7030-8515669.pdf?src-supplier=Avnet; ComponentLink2Description: https://datasheet.ciiva.com/8515/srp7030-8515669.pdf?src-supplier=Avnet; ComponentLink3URL: https://datasheet.ciiva.com/6693/srp7030-6693881.pdf?src-supplier=Digi-Key; ComponentLink3Description: https://datasheet.ciiva.com/6693/srp7030-6693881.pdf?src-supplier=Digi-Key; ComponentLink4URL: https://datasheet.ciiva.com/8515/srp7030-8515673.pdf?src-supplier=Avnet; ComponentLink4Description: https://datasheet.ciiva.com/8515/srp7030-8515673.pdf?src-supplier=Avnet; ComponentLink5URL: https://datasheet.ciiva.com/6693/srp7030-6693882.pdf?src-supplier=Digi-Key; ComponentLink5Description: https://datasheet.ciiva.com/6693/srp7030-6693882.pdf?src-supplier=Digi-Key; ComponentLink6URL: https://datasheet.ciiva.com/17037/70277168-17037466.pdf?src-supplier=Allied+Electronics; ComponentLink6Description: https://datasheet.ciiva.com/17037/70277168-17037466.pdf?src-supplier=Allied+Electronics; ComponentLink7URL: https://datasheet.ciiva.com/17247/srp7030-17247611.pdf?src-supplier=Avnet+Europe; ComponentLink7Description: https://datasheet.ciiva.com/17247/srp7030-17247611.pdf?src-supplier=Avnet+Europe; ComponentLink8URL: https://datasheet.ciiva.com/7849/1837085-7849567.pdf?src-supplier=Element14; ComponentLink8Description: https://datasheet.ciiva.com/7849/1837085-7849567.pdf?src-supplier=Element14; ComponentLink9URL: https://datasheet.ciiva.com/48691/001056511-da-01-en-mag-abgesch-l-ind-srp7030-2r2m-2-2uh-20-48691803.pdf?src-supplier=Conrad; ComponentLink9Description: https://datasheet.ciiva.com/48691/001056511-da-01-en-mag-abgesch-l-ind-srp7030-2r2m-2-2uh-20-48691803.pdf?src-supplier=Conrad; Supplier Part Number 1: SRP7030-2R2MCT-ND
footprint IND_BOURNS_SRP7030-M
pins: 1 P$1, 2 P$2

## T521D336M035ATE065
designator C?, comment CAP TANTALUM 33UF 35V 2917  Voltage Rating: 35V  Capacitance: 33uF  Case/Package: 2917
33µF Molded Tantalum Polymer Capacitor 35V 2917 (7343 Metric) 65mOhm @ 100kHz; Manufacturer: KEMET; Manufacturer Part Number: T521D336M035ATE065; Tolerance: 20%; ESR (Equivalent Series Resistance): 65mR; Polarity: Polar; Life (Hours): 2000Hour; Dissipation Factor: 10%; Supplier 1: Digi-Key; Stock 1: 43968; Pricing 1: 1 = 3.39000, 10 = 2.73100, 100 = 2.13040 (USD); RoHS: Yes; Mount: Surface Mount; Case Code (Metric): 7343; Case Code (Imperial): 2917; Min Operating Temperature: -55°C; Max Operating Temperature: 125°C; Packaging: Tape and Reel; Package Quantity: 1; Voltage Rating (DC): 35V; Termination: SMD/SMT; Features: General Purpose; Length: 7.3mm; Height: 2.8mm; Width: 0.169inch; Height - Seated (Max): 0.122inch; Depth: 4.3mm; REACH SVHC: No SVHC; ComponentLink1URL: https://datasheet.ciiva.com/6247/datasheetpn-t521d336m035ate065-6247290.pdf?src-supplier=Digi-Key; ComponentLink1Description: https://datasheet.ciiva.com/6247/datasheetpn-t521d336m035ate065-6247290.pdf?src-supplier=Digi-Key; ComponentLink2URL: https://datasheet.ciiva.com/5459/kem-t2016-t521-535640-5459610.pdf?src-supplier=Mouser; ComponentLink2Description: https://datasheet.ciiva.com/5459/kem-t2016-t521-535640-5459610.pdf?src-supplier=Mouser; ComponentLink3URL: https://datasheet.ciiva.com/6247/kem-t2016-t521-6247291.pdf?src-supplier=Digi-Key; ComponentLink3Description: https://datasheet.ciiva.com/6247/kem-t2016-t521-6247291.pdf?src-supplier=Digi-Key; ComponentLink4URL: https://datasheet.ciiva.com/7759/1446013-7759035.pdf?src-supplier=Element14; ComponentLink4Description: https://datasheet.ciiva.com/7759/1446013-7759035.pdf?src-supplier=Element14; ComponentLink5URL: https://datasheet.ciiva.com/6247/kem-t2016-t521-6247292.pdf?src-supplier=Digi-Key; ComponentLink5Description: https://datasheet.ciiva.com/6247/kem-t2016-t521-6247292.pdf?src-supplier=Digi-Key; Supplier Part Number 1: 399-9786-1-ND
footprint 1206
pins: P$1, P$2

## TE-1747786-1
designator CON?
GateName_1: G$1; SymbolName_1: TE-1747786-1; LibraryName: Roambotics; DeviceSetName: TE-1747786-1; TE-1747786-1: TE-1747786-1
footprint TE-1747786-1
pins: P$1, P$2, P$3, P$4, P$5, P$6, P$7, P$8

## WSLP1206R0100FEA
designator R?, comment RES 0.01 OHM 1% 1W 1206  Case/Package: 1206  Resistance: 10mR
10 mOhms ±1% 1W Chip Resistor 1206 (3216 Metric) Anti-Sulfur, Automotive AEC-Q200, Current Sense, Moisture Resistant, Pulse Withstanding Metal Element; Manufacturer: Vishay Dale; Manufacturer Part Number: WSLP1206R0100FEA; Temperature Coefficient: 75ppm/°C; Supplier 1: Digi-Key; Stock 1: 312015; Pricing 1: 1 = 0.88000, 10 = 0.76200, 25 = 0.67000, 50 = 0.61220, 100 = 0.53130, 250 = 0.46200, 500 = 0.38346, 1000 = 0.31185 (USD); RoHS: Yes; Mount: Surface Mount; Number of Pins: 2; Weight: 0.000571oz; Contact Plating: Tin; Case Code (Metric): 3216; Case Code (Imperial): 1206; Min Operating Temperature: -65°C; Max Operating Temperature: 170°C; Tolerance: 1%; Power Rating: 1W; Composition: Metal Element; Package Quantity: 1; Packaging: Tape and Reel; Number of Terminations: 2; Termination: SMD/SMT; Military Standard: Not; Max Power Dissipation: 1W; Features: Moisture Resistant; Length: 3.2mm; Height: 0.635mm; Width: 0.063inch; Depth: 1.6mm; Radiation Hardening: No; REACH SVHC: Unknown; Lead Free: Lead Free; ComponentLink1URL: https://datasheet.ciiva.com/2482/wslp-2482962.pdf?src-supplier=Digi-Key; ComponentLink1Description: https://datasheet.ciiva.com/2482/wslp-2482962.pdf?src-supplier=Digi-Key; ComponentLink2URL: https://datasheet.ciiva.com/2482/wslp-2482963.pdf?src-supplier=Digi-Key; ComponentLink2Description: https://datasheet.ciiva.com/2482/wslp-2482963.pdf?src-supplier=Digi-Key; ComponentLink3URL: https://datasheet.ciiva.com/2482/wslp-2482964.pdf?src-supplier=Digi-Key; ComponentLink3Description: https://datasheet.ciiva.com/2482/wslp-2482964.pdf?src-supplier=Digi-Key; ComponentLink4URL: https://datasheet.ciiva.com/46412/1813044-46412936.pdf?src-supplier=Element14; ComponentLink4Description: https://datasheet.ciiva.com/46412/1813044-46412936.pdf?src-supplier=Element14; ComponentLink5URL: https://datasheet.ciiva.com/46412/1813044-46412937.pdf?src-supplier=Element14; ComponentLink5Description: https://datasheet.ciiva.com/46412/1813044-46412937.pdf?src-supplier=Element14; Supplier Part Number 1: WSLP-.01CT-ND
footprint 1206
pins: P$1, P$2